# Altium integrated library Analog Devices Data Converters Analog-to-Digital Converters.IntLib: 2400 symbols (part 1 of 338)
Pins are listed as number, name and electrical type; pins without a type are passive.

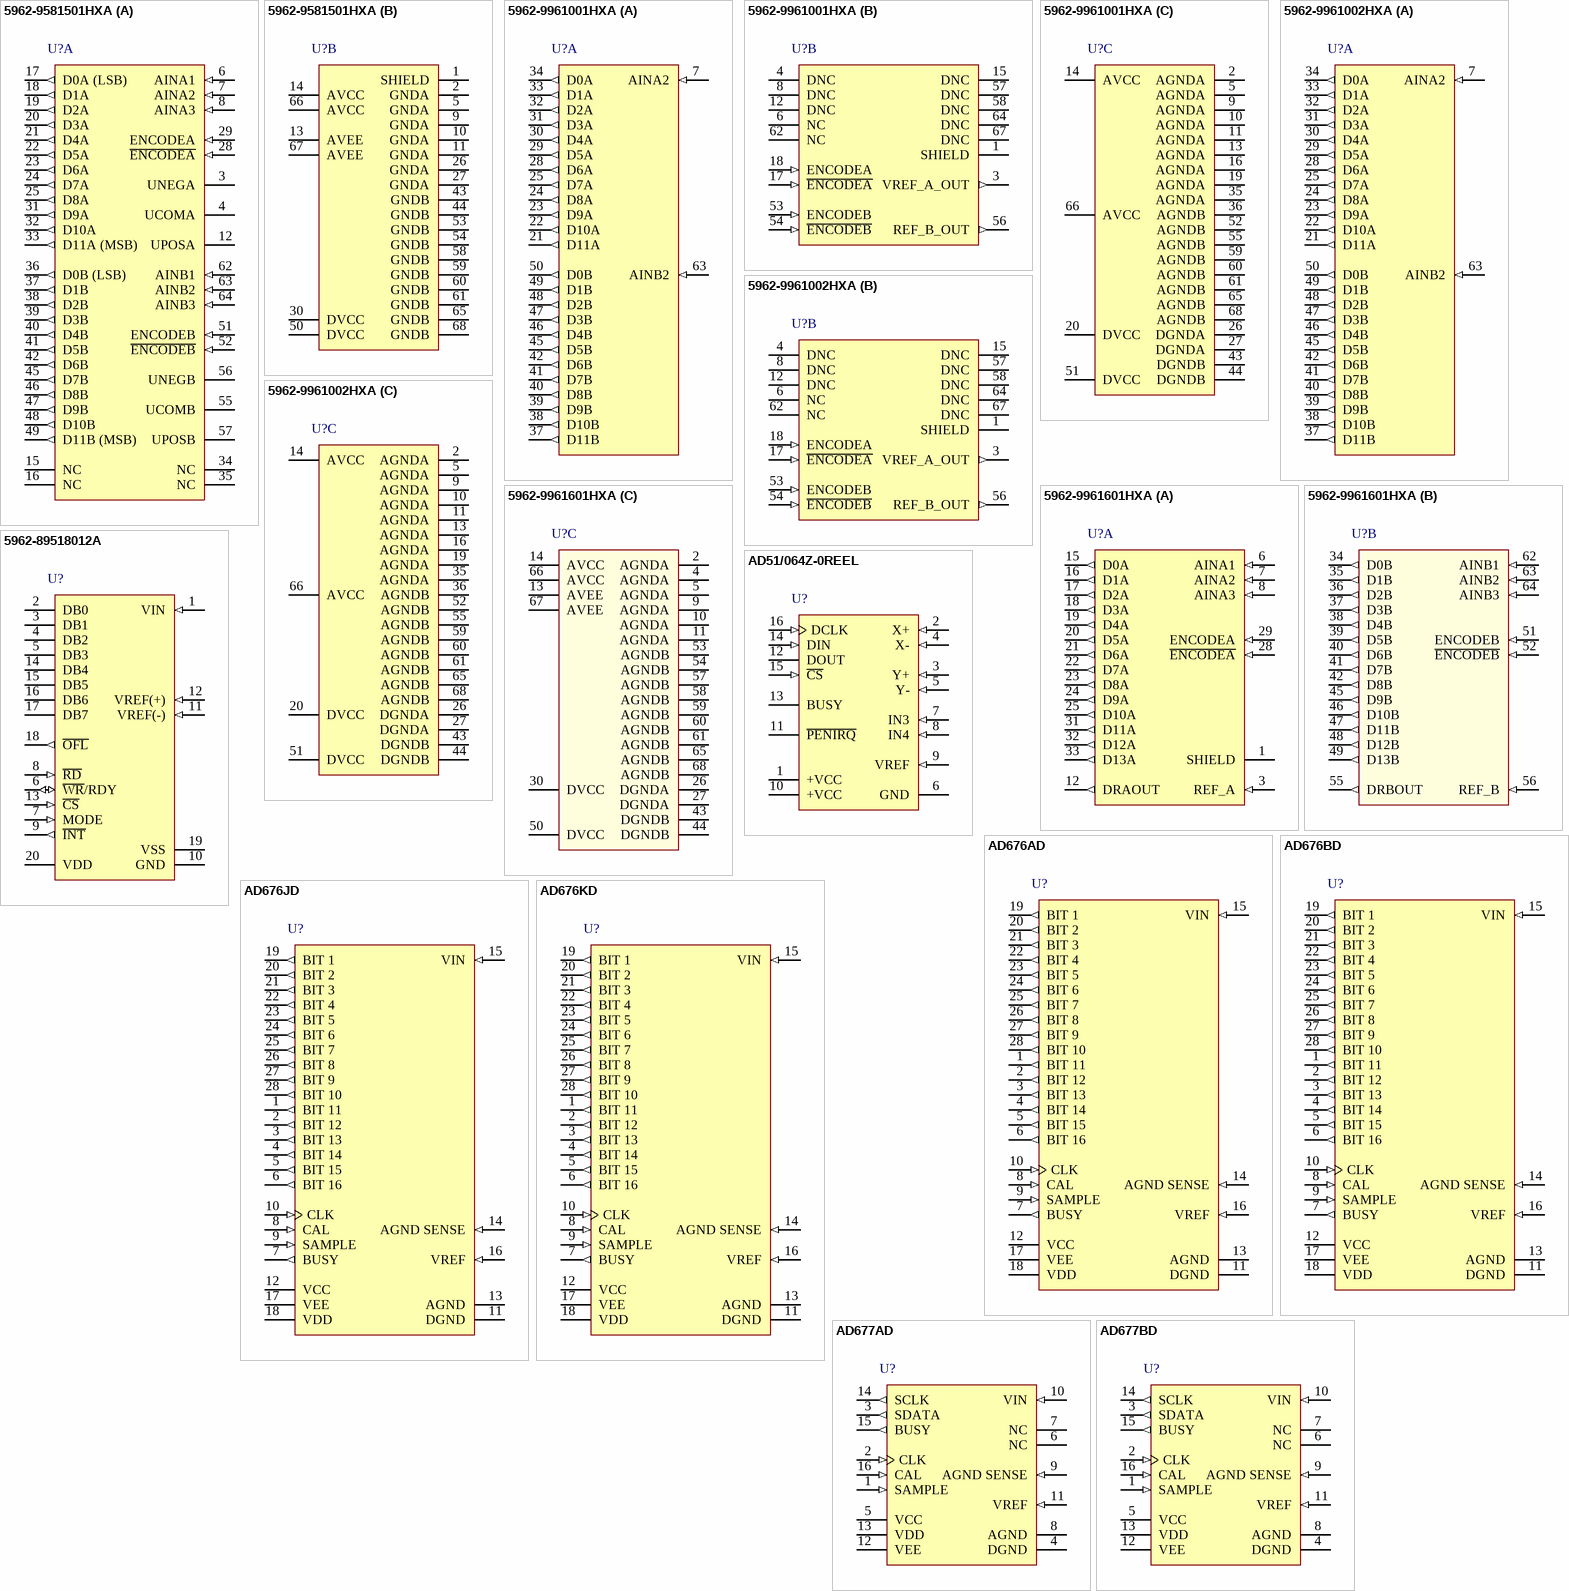
[diagram p0: symbols 5962-9581501HXA to AD677BD]

## 5962-9581501HXA
designator U?
Dual 12-Bit Microcircuit Hybrid Digital-Linear Analog-to-Digital Converter with Parallel Interface, 40MSPS, -55 to +125 degC, ES-68-1; Part Number: AD10242; Manufacturer: Analog Devices; Resolution (Bits): 12; Channels: 2; Throughput Rate (SPS): 40M; Interface: Par; Packing: 1; DatasheetVersion: Rev.B; PackageVersion: 2006; PackageReference: ES-68-1; PackageDescription: 68-Lead Ceramic Leaded Chip Carrier with Nonconductive Tie-Bar [CLCC]; RoHS: N; Mounting Technology: Surface Mount; ComponentLink1Description: Manufacturer URL; ComponentLink1URL: http://www.analog.com/en/index.html; ComponentLink2Description: Datasheet; ComponentLink2URL: http://www.dscc.dla.mil/downloads/milspec/smd/95815.pdf; ComponentLink3Description: Package Specification; ComponentLink3URL: http://www.analog.com/static/imported-files/packages/194770556ES_68_1.pdf; ComponentLink4Description: Product URL; ComponentLink4URL: http://www.analog.com/en/analog-to-digital-converters/ad-converters/ad10242/products/product.html
footprint ES-68-1_N (CQFP, 68-Leads, Body 24.1x24.1mm; Pitch 1.27mm, Gullwing Leadform, IPC Medium Density)
footprint ES-68-1_L (CQFP, 68-Leads, Body 24.1x24.1mm; Pitch 1.27mm, Gullwing Leadform, IPC High Density)
footprint ES-68-1_M (CQFP, 68-Leads, Body 24.1x24.1mm; Pitch 1.27mm, Gullwing Leadform, IPC Low Density)
part A pins: 3 UNEGA "Unipolar Negative.", 4 UCOMA "Unipolar Common.", 6 AINA1 (in) "Analog Input for A Side ADC (Nominally +/-0.5 V).", 7 AINA2 (in) "Analog Input for A Side ADC (Nominally +/-1.0 V).", 8 AINA3 (in) "Analog Input for A Side ADC (Nominally +/-2.0 V).", 12 UPOSA "Unipolar Positive.", 15 NC "No Connect.", 16 NC "No Connect.", 17 D0A (LSB) (out) "Digital Outputs for ADC A. (D0 LSB.)", 18 D1A (out) "Digital Outputs for ADC A. (D0 LSB.)", 19 D2A (out) "Digital Outputs for ADC A. (D0 LSB.)", 20 D3A (out) "Digital Outputs for ADC A. (D0 LSB.)", 21 D4A (out) "Digital Outputs for ADC A. (D0 LSB.)", 22 D5A (out) "Digital Outputs for ADC A. (D0 LSB.)", 23 D6A (out) "Digital Outputs for ADC A. (D0 LSB.)", 24 D7A (out) "Digital Outputs for ADC A. (D0 LSB.)", 25 D8A (out) "Digital Outputs for ADC A. (D0 LSB.)", 28 ~{ENCODEA} (in) "E\N\C\O\D\E\ is the complement of ENCODE.", 29 ENCODEA (in) "Data conversion is initiated on the rising edge of the ENCODE input.", 31 D9A (out) "Digital Outputs for ADC A. (D0 LSB.)", 32 D10A (out) "Digital Outputs for ADC A. (D0 LSB.)", 33 D11A (MSB) (out) "Digital Outputs for ADC A. (D0 LSB.)", 34 NC "No Connect.", 35 NC "No Connect.", 36 D0B (LSB) (out) "Digital Outputs for ADC B. (D0 LSB.)", 37 D1B (out) "Digital Outputs for ADC B. (D0 LSB.)", 38 D2B (out) "Digital Outputs for ADC B. (D0 LSB.)", 39 D3B (out) "Digital Outputs for ADC B. (D0 LSB.)", 40 D4B (out) "Digital Outputs for ADC B. (D0 LSB.)", 41 D5B (out) "Digital Outputs for ADC B. (D0 LSB.)", 42 D6B (out) "Digital Outputs for ADC B. (D0 LSB.)", 45 D7B (out) "Digital Outputs for ADC B. (D0 LSB.)", 46 D8B (out) "Digital Outputs for ADC B. (D0 LSB.)", 47 D9B (out) "Digital Outputs for ADC B. (D0 LSB.)", 48 D10B (out) "Digital Outputs for ADC B. (D0 LSB.)", 49 D11B (MSB) (out) "Digital Outputs for ADC B. (D0 LSB.)", 51 ENCODEB (in) "Data conversion is initiated on the rising edge of the ENCODE input.", 52 ~{ENCODEB} (in) "E\N\C\O\D\E\ is the complement of ENCODE.", 55 UCOMB "Unipolar Common.", 56 UNEGB "Unipolar Negative.", 57 UPOSB "Unipolar Positive.", 62 AINB1 (in) "Analog Input for B Side ADC (Nominally +/-0.5 V).", 63 AINB2 (in) "Analog Input for B Side ADC (Nominally +/-1.0 V).", 64 AINB3 (in) "Analog Input for B Side ADC (Nominally +/-2.0 V)."
part B pins: 1 SHIELD (power) "Internal Ground Shield between Channels.", 2 GNDA (power) "A Channel Ground. A and B grounds should be connected as close to the device as possible.", 5 GNDA (power) "A Channel Ground. A and B grounds should be connected as close to the device as possible.", 9 GNDA (power) "A Channel Ground. A and B grounds should be connected as close to the device as possible.", 10 GNDA (power) "A Channel Ground. A and B grounds should be connected as close to the device as possible.", 11 GNDA (power) "A Channel Ground. A and B grounds should be connected as close to the device as possible.", 13 AVEE (power) "Analog Negative Supply Voltage (Nominally -5.0 V or -5.2 V).", 14 AVCC (power) "Analog Positive Supply Voltage (Nominally 5.0 V).", 26 GNDA (power) "A Channel Ground. A and B grounds should be connected as close to the device as possible.", 27 GNDA (power) "A Channel Ground. A and B grounds should be connected as close to the device as possible.", 30 DVCC (power) "Digital Positive Supply Voltage (Nominally 5.0 V).", 43 GNDB (power) "B Channel Ground. A and B grounds should be connected as close to the device as possible.", 44 GNDB (power) "B Channel Ground. A and B grounds should be connected as close to the device as possible.", 50 DVCC (power) "Digital Positive Supply Voltage (Nominally 5.0 V).", 53 GNDB (power) "B Channel Ground. A and B grounds should be connected as close to the device as possible.", 54 GNDB (power) "B Channel Ground. A and B grounds should be connected as close to the device as possible.", 58 GNDB (power) "B Channel Ground. A and B grounds should be connected as close to the device as possible.", 59 GNDB (power) "B Channel Ground. A and B grounds should be connected as close to the device as possible.", 60 GNDB (power) "B Channel Ground. A and B grounds should be connected as close to the device as possible.", 61 GNDB (power) "B Channel Ground. A and B grounds should be connected as close to the device as possible.", 65 GNDB (power) "B Channel Ground. A and B grounds should be connected as close to the device as possible.", 66 AVCC (power) "Analog Positive Supply Voltage (Nominally 5.0 V).", 67 AVEE (power) "Analog Negative Supply Voltage (Nominally -5.0 V or -5.2 V).", 68 GNDB (power) "B Channel Ground. A and B grounds should be connected as close to the device as possible."

## 5962-9961001HXA
designator U?
Dual 12-Bit IF Sampling Analog-to-Digital Converter with Parallel Interface and Analog Input Signal Conditioning, 105MSPS, -55 to +125 degC, ES-68-3; Part Number: AD10200; Manufacturer: Analog Devices; Resolution (Bits): 12; Channels: 2; Throughput Rate (SPS): 105M; Interface: Par; Packing: 1; DatasheetVersion: Rev.A; PackageVersion: 072908-A; PackageReference: ES-68-3; PackageDescription: 68-Lead Ceramic Leaded Chip Carrier [CLCC]; RoHS: N; Mounting Technology: Surface Mount; ComponentLink1Description: Manufacturer URL; ComponentLink1URL: http://www.analog.com/en/index.html; ComponentLink2Description: Datasheet; ComponentLink2URL: http://www.analog.com/static/imported-files/data_sheets/AD10200.pdf; ComponentLink3Description: Package Specification; ComponentLink3URL: http://www.analog.com/static/imported-files/packages/PKG_PDF/CLCC(ES)/ES_68_3.pdf; ComponentLink4Description: Product URL; ComponentLink4URL: http://www.analog.com/en/analog-to-digital-converters/ad-converters/ad10200/products/product.html
footprint ES-68-3_N (CQFP, 68-Leads, Body 24.1x24.1mm; Pitch 1.27mm, Gullwing Leadform, IPC Medium Density)
footprint ES-68-3_L (CQFP, 68-Leads, Body 24.1x24.1mm; Pitch 1.27mm, Gullwing Leadform, IPC High Density)
footprint ES-68-3_M (CQFP, 68-Leads, Body 24.1x24.1mm; Pitch 1.27mm, Gullwing Leadform, IPC Low Density)
part A pins: 7 AINA2 (in) "Analog Input for A Side ADC", 21 D11A (out) "Digital Outputs for ADC A.", 22 D10A (out) "Digital Outputs for ADC A.", 23 D9A (out) "Digital Outputs for ADC A.", 24 D8A (out) "Digital Outputs for ADC A.", 25 D7A (out) "Digital Outputs for ADC A.", 28 D6A (out) "Digital Outputs for ADC A", 29 D5A (out) "Digital Outputs for ADC A.", 30 D4A (out) "Digital Outputs for ADC A.", 31 D3A (out) "Digital Outputs for ADC A.", 32 D2A (out) "Digital Outputs for ADC A.", 33 D1A (out) "Digital Outputs for ADC A.", 34 D0A (out) "Digital Outputs for ADC A.", 37 D11B (out) "Digital Outputs for ADC B.", 38 D10B (out) "Digital Outputs for ADC B.", 39 D9B (out) "Digital Outputs for ADC B.", 40 D8B (out) "Digital Outputs for ADC B.", 41 D7B (out) "Digital Outputs for ADC B", 42 D6B (out) "Digital Outputs for ADC B.", 45 D5B (out) "Digital Outputs for ADC B.", 46 D4B (out) "Digital Outputs for ADC B.", 47 D3B (out) "Digital Outputs for ADC B.", 48 D2B (out) "Digital Outputs for ADC B.", 49 D1B (out) "Digital Outputs for ADC B.", 50 D0B (out) "Digital Outputs for ADC B.", 63 AINB2 (in) "Analog Input for B Side ADC"
part B pins: 1 SHIELD "Internal Ground Shield between Channels", 3 VREF_A_OUT (out) "A Channel Internal Voltage Reference", 4 DNC "Do Not Connect", 6 NC "No Connection", 8 DNC "Do Not Connect", 12 DNC "Do Not Connect", 15 DNC "Do Not Connect", 17 ~{ENCODEA} (in) "Complement of Encode", 18 ENCODEA (in) "Data conversion initiated on the rising edge of ENCODE input.", 53 ENCODEB (in) "Data conversion initiated on rising edge of ENCODE input.", 54 ~{ENCODEB} (in) "Complement of Encode", 56 REF_B_OUT (out) "B Channel Internal Voltage Reference", 57 DNC "Do Not Connect", 58 DNC "Do Not Connect", 62 NC "No Connection", 64 DNC "Do Not Connect", 67 DNC "Do Not Connect"
part C pins: 2 AGNDA (power) "A Channel Analog Ground. A and B grounds should be connected as close to the device as possible.", 5 AGNDA (power) "A Channel Analog Ground. A and B grounds should be connected as close to the device as possible.", 9 AGNDA (power) "A Channel Analog Ground. A and B grounds should be connected as close to the device as possible.", 10 AGNDA (power) "A Channel Analog Ground. A and B grounds should be connected as close to the device as possible.", 11 AGNDA (power) "A Channel Analog Ground. A and B grounds should be connected as close to the device as possible.", 13 AGNDA (power) "A Channel Analog Ground. A and B grounds should be connected as close to the device as possible.", 14 AVCC (power) "Analog Positive Supply Voltage (Nominally 5.0 V)", 16 AGNDA (power) "A Channel Analog Ground. A and B grounds should be connected as close to the device as possible.", 19 AGNDA (power) "A Channel Analog Ground. A and B grounds should be connected as close to the device as possible.", 20 DVCC (power) "Digital Positive Supply Voltage (Nominally 3.3 V)", 26 DGNDA (power) "A Channel Digital Ground", 27 DGNDA (power) "A Channel Digital Ground", 35 AGNDA (power) "A Channel Analog Ground. A and B grounds should be connected as close to the device as possible.", 36 AGNDB (power) "B Channel Analog Ground. A and B grounds should be connected as close to the device as possible.", 43 DGNDB (power) "B Channel Digital Ground", 44 DGNDB (power) "B Channel Digital Ground", 51 DVCC (power) "Digital Positive Supply Voltage (Nominally 3.3 V)", 52 AGNDB (power) "B Channel Analog Ground. A and B grounds should be connected as close to the device as possible.", 55 AGNDB (power) "B Channel Analog Ground. A and B grounds should be connected as close to the device as possible.", 59 AGNDB (power) "B Channel Analog Ground. A and B grounds should be connected as close to the device as possible.", 60 AGNDB (power) "B Channel Analog Ground. A and B grounds should be connected as close to the device as possible.", 61 AGNDB (power) "B Channel Analog Ground. A and B grounds should be connected as close to the device as possible.", 65 AGNDB (power) "B Channel Analog Ground. A and B grounds should be connected as close to the device as possible.", 66 AVCC (power) "Analog Positive Supply Voltage (Nominally 5.0 V)", 68 AGNDB (power) "B Channel Analog Ground. A and B grounds should be connected as close to the device as possible."

## 5962-9961002HXA
designator U?
Dual 12-Bit IF Sampling Analog-to-Digital Converter with Parallel Interface and Analog Input Signal Conditioning, 105MSPS, -55 to +125 degC, ES-68-3; Part Number: AD10200; Manufacturer: Analog Devices; Resolution (Bits): 12; Channels: 2; Throughput Rate (SPS): 105M; Interface: Par; DatasheetVersion: Rev.A; PackageVersion: 072908-A; PackageReference: ES-68-3; PackageDescription: 68-Lead Ceramic Leaded Chip Carrier [CLCC]; RoHS: N; Mounting Technology: Surface Mount; ComponentLink1Description: Manufacturer URL; ComponentLink1URL: http://www.analog.com/en/index.html; ComponentLink2Description: Datasheet; ComponentLink2URL: http://www.analog.com/static/imported-files/data_sheets/AD10200.pdf; ComponentLink3Description: Package Specification; ComponentLink3URL: http://www.analog.com/static/imported-files/packages/PKG_PDF/CLCC(ES)/ES_68_3.pdf; ComponentLink4Description: Product URL; ComponentLink4URL: http://www.analog.com/en/analog-to-digital-converters/ad-converters/ad10200/products/product.html
footprint ES-68-3_N (CQFP, 68-Leads, Body 24.1x24.1mm; Pitch 1.27mm, Gullwing Leadform, IPC Medium Density)
footprint ES-68-3_L (CQFP, 68-Leads, Body 24.1x24.1mm; Pitch 1.27mm, Gullwing Leadform, IPC High Density)
footprint ES-68-3_M (CQFP, 68-Leads, Body 24.1x24.1mm; Pitch 1.27mm, Gullwing Leadform, IPC Low Density)
part A pins: 7 AINA2 (in) "Analog Input for A Side ADC", 21 D11A (out) "Digital Outputs for ADC A.", 22 D10A (out) "Digital Outputs for ADC A.", 23 D9A (out) "Digital Outputs for ADC A.", 24 D8A (out) "Digital Outputs for ADC A.", 25 D7A (out) "Digital Outputs for ADC A.", 28 D6A (out) "Digital Outputs for ADC A", 29 D5A (out) "Digital Outputs for ADC A.", 30 D4A (out) "Digital Outputs for ADC A.", 31 D3A (out) "Digital Outputs for ADC A.", 32 D2A (out) "Digital Outputs for ADC A.", 33 D1A (out) "Digital Outputs for ADC A.", 34 D0A (out) "Digital Outputs for ADC A.", 37 D11B (out) "Digital Outputs for ADC B.", 38 D10B (out) "Digital Outputs for ADC B.", 39 D9B (out) "Digital Outputs for ADC B.", 40 D8B (out) "Digital Outputs for ADC B.", 41 D7B (out) "Digital Outputs for ADC B", 42 D6B (out) "Digital Outputs for ADC B.", 45 D5B (out) "Digital Outputs for ADC B.", 46 D4B (out) "Digital Outputs for ADC B.", 47 D3B (out) "Digital Outputs for ADC B.", 48 D2B (out) "Digital Outputs for ADC B.", 49 D1B (out) "Digital Outputs for ADC B.", 50 D0B (out) "Digital Outputs for ADC B.", 63 AINB2 (in) "Analog Input for B Side ADC"
part B pins: 1 SHIELD "Internal Ground Shield between Channels", 3 VREF_A_OUT (out) "A Channel Internal Voltage Reference", 4 DNC "Do Not Connect", 6 NC "No Connection", 8 DNC "Do Not Connect", 12 DNC "Do Not Connect", 15 DNC "Do Not Connect", 17 ~{ENCODEA} (in) "Complement of Encode", 18 ENCODEA (in) "Data conversion initiated on the rising edge of ENCODE input.", 53 ENCODEB (in) "Data conversion initiated on rising edge of ENCODE input.", 54 ~{ENCODEB} (in) "Complement of Encode", 56 REF_B_OUT (out) "B Channel Internal Voltage Reference", 57 DNC "Do Not Connect", 58 DNC "Do Not Connect", 62 NC "No Connection", 64 DNC "Do Not Connect", 67 DNC "Do Not Connect"
part C pins: 2 AGNDA (power) "A Channel Analog Ground. A and B grounds should be connected as close to the device as possible.", 5 AGNDA (power) "A Channel Analog Ground. A and B grounds should be connected as close to the device as possible.", 9 AGNDA (power) "A Channel Analog Ground. A and B grounds should be connected as close to the device as possible.", 10 AGNDA (power) "A Channel Analog Ground. A and B grounds should be connected as close to the device as possible.", 11 AGNDA (power) "A Channel Analog Ground. A and B grounds should be connected as close to the device as possible.", 13 AGNDA (power) "A Channel Analog Ground. A and B grounds should be connected as close to the device as possible.", 14 AVCC (power) "Analog Positive Supply Voltage (Nominally 5.0 V)", 16 AGNDA (power) "A Channel Analog Ground. A and B grounds should be connected as close to the device as possible.", 19 AGNDA (power) "A Channel Analog Ground. A and B grounds should be connected as close to the device as possible.", 20 DVCC (power) "Digital Positive Supply Voltage (Nominally 3.3 V)", 26 DGNDA (power) "A Channel Digital Ground", 27 DGNDA (power) "A Channel Digital Ground", 35 AGNDA (power) "A Channel Analog Ground. A and B grounds should be connected as close to the device as possible.", 36 AGNDB (power) "B Channel Analog Ground. A and B grounds should be connected as close to the device as possible.", 43 DGNDB (power) "B Channel Digital Ground", 44 DGNDB (power) "B Channel Digital Ground", 51 DVCC (power) "Digital Positive Supply Voltage (Nominally 3.3 V)", 52 AGNDB (power) "B Channel Analog Ground. A and B grounds should be connected as close to the device as possible.", 55 AGNDB (power) "B Channel Analog Ground. A and B grounds should be connected as close to the device as possible.", 59 AGNDB (power) "B Channel Analog Ground. A and B grounds should be connected as close to the device as possible.", 60 AGNDB (power) "B Channel Analog Ground. A and B grounds should be connected as close to the device as possible.", 61 AGNDB (power) "B Channel Analog Ground. A and B grounds should be connected as close to the device as possible.", 65 AGNDB (power) "B Channel Analog Ground. A and B grounds should be connected as close to the device as possible.", 66 AVCC (power) "Analog Positive Supply Voltage (Nominally 5.0 V)", 68 AGNDB (power) "B Channel Analog Ground. A and B grounds should be connected as close to the device as possible."

## 5962-9961601HXA
designator U?
Dual 14-Bit Analog-to-Digital Converter with Parallel Interface and Analog Input Signal Conditioning, 65MSPS, -40 to +85 degC, Z-68A; Part Number: AD10465; Manufacturer: Analog Devices; Resolution (Bits): 14; Channels: 2; Throughput Rate (SPS): 65M; Interface: Par; DatasheetVersion: Rev.A; PackageVersion: 2003; PackageReference: Z-68A; PackageDescription: 68-Lead Ceramic Leaded Chip Carrier [CLCC]; RoHS: N; Mounting Technology: Surface Mount; ComponentLink1Description: Manufacturer URL; ComponentLink1URL: http://www.analog.com/en/index.html; ComponentLink2Description: Datasheet; ComponentLink2URL: http://www.analog.com/static/imported-files/data_sheets/AD10465.pdf; ComponentLink3Description: Package Specification; ComponentLink3URL: Z-68A; ComponentLink4Description: Product URL; ComponentLink4URL: http://www.analog.com/en/analog-to-digital-converters/ad-converters/ad10465/products/product.html
footprint Z-68A_N (QFP, 68-Leads, Body 24.1x24.1mm, Pitch 1.27mm, IPC Medium Density)
footprint Z-68A_L (QFP, 68-Leads, Body 24.1x24.1mm, Pitch 1.27mm, IPC High Density)
footprint Z-68A_M (QFP, 68-Leads, Body 24.1x24.1mm, Pitch 1.27mm, IPC Low Density)
part A pins: 1 SHIELD "Internal Ground Shield between Channels", 3 REF_A (in) "A Channel Internal Voltage Reference", 6 AINA1 (in) "Analog Input for A Side ADC (Nominally +/-0.5 V).", 7 AINA2 (in) "Analog Input for A Side ADC (Nominally +/-1.0 V).", 8 AINA3 (in) "Analog Input for A Side ADC (Nominally +/-2.0 V).", 12 DRAOUT (out) "Data Ready A Output.", 15 D0A (out) "Digital Outputs for ADC A. D0A (LSBA).", 16 D1A (out) "Digital Outputs for ADC A.", 17 D2A (out) "Digital Outputs for ADC A.", 18 D3A (out) "Digital Outputs for ADC A.", 19 D4A (out) "Digital Outputs for ADC A.", 20 D5A (out) "Digital Outputs for ADC A.", 21 D6A (out) "Digital Outputs for ADC A.", 22 D7A (out) "Digital Outputs for ADC A.", 23 D8A (out) "Digital Outputs for ADC A.", 24 D9A (out) "Digital Outputs for ADC A.", 25 D10A (out) "Digital Outputs for ADC A.", 28 ~{ENCODEA} (in) "Complement of ENCODE.", 29 ENCODEA (in) "Data Conversion Initiated on Rising Edge of ENCODE Input.", 31 D11A (out) "Digital Outputs for ADC A.", 32 D12A (out) "Digital Outputs for ADC A.", 33 D13A (out) "Digital Outputs for ADC A."
part B pins: 34 D0B (out) "Digital Outputs for ADC B. D0B (LSBB).", 35 D1B (out) "Digital Outputs for ADC B.", 36 D2B (out) "Digital Outputs for ADC B.", 37 D3B (out) "Digital Outputs for ADC B.", 38 D4B (out) "Digital Outputs for ADC B.", 39 D5B (out) "Digital Outputs for ADC B.", 40 D6B (out) "Digital Outputs for ADC B.", 41 D7B (out) "Digital Outputs for ADC B.", 42 D8B (out) "Digital Outputs for ADC B.", 45 D9B (out) "Digital Outputs for ADC B.", 46 D10B (out) "Digital Outputs for ADC B.", 47 D11B (out) "Digital Outputs for ADC B.", 48 D12B (out) "Digital Outputs for ADC B.", 49 D13B (out) "Digital Outputs for ADC B.", 51 ENCODEB (in) "Data conversion initiated on rising edge of ENCODE input.", 52 ~{ENCODEB} (in) "Complement of ENCODEB.", 55 DRBOUT (out) "Data Ready B Output.", 56 REF_B (in) "B Channel Internal Voltage Reference", 62 AINB1 (in) "Analog Input for B Side ADC (Nominally +/-0.5 V).", 63 AINB2 (in) "Analog Input for B Side ADC (Nominally +/-1.0 V).", 64 AINB3 (in) "Analog Input for B Side ADC (Nominally +/-2.0 V)."
part C pins: 2 AGNDA (power) "A Channel Analog Ground. A and B grounds should be connected as close to the device as possible.", 4 AGNDA (power) "A Channel Analog Ground. A and B grounds should be connected as close to the device as possible.", 5 AGNDA (power) "A Channel Analog Ground. A and B grounds should be connected as close to the device as possible.", 9 AGNDA (power) "A Channel Analog Ground. A and B grounds should be connected as close to the device as possible.", 10 AGNDA (power) "A Channel Analog Ground. A and B grounds should be connected as close to the device as possible.", 11 AGNDA (power) "A Channel Analog Ground. A and B grounds should be connected as close to the device as possible.", 13 AVEE (power) "Analog Negative Supply Voltage (Nominally -5.0 V or -5.2 V).", 14 AVCC (power) "Analog Positive Supply Voltage (Nominally 5.0 V)", 26 DGNDA (power) "A Channel Digital Ground", 27 DGNDA (power) "A Channel Digital Ground", 30 DVCC (power) "Digital Positive Supply Voltage (Nominally 5.0 V or 3.3 V).", 43 DGNDB (power) "B Channel Digital Ground", 44 DGNDB (power) "B Channel Digital Ground", 50 DVCC (power) "Digital Positive Supply Voltage (Nominally 5.0 V or 3.3 V).", 53 AGNDB (power) "B Channel Analog Ground. A and B grounds should be connected as close to the device as possible.", 54 AGNDB (power) "B Channel Analog Ground. A and B grounds should be connected as close to the device as possible.", 57 AGNDB (power) "B Channel Analog Ground. A and B grounds should be connected as close to the device as possible.", 58 AGNDB (power) "B Channel Analog Ground. A and B grounds should be connected as close to the device as possible.", 59 AGNDB (power) "B Channel Analog Ground. A and B grounds should be connected as close to the device as possible.", 60 AGNDB (power) "B Channel Analog Ground. A and B grounds should be connected as close to the device as possible.", 61 AGNDB (power) "B Channel Analog Ground. A and B grounds should be connected as close to the device as possible.", 65 AGNDB (power) "B Channel Analog Ground. A and B grounds should be connected as close to the device as possible.", 66 AVCC (power) "Analog Positive Supply Voltage (Nominally 5.0 V).", 67 AVEE (power) "Analog Negative Supply Voltage (Nominally -5.0 V or -5.2 V).", 68 AGNDB (power) "B Channel Analog Ground. A and B grounds should be connected as close to the device as possible."

## 5962-89518012A
designator U?
Single 8-Bit Microcircuit Analog-to-Digital Converter with Parallel Interface and Track / Hold, CMOS, Monolithic Silicon, 1MSPS, -55 to +125 degC, E-20-1, Tube; Part Number: AD7821; Manufacturer: Analog Devices; Resolution (Bits): 8; Channels: 1; Throughput Rate (SPS): 1M; Interface: Par; DatasheetVersion: Rev.B; PackageVersion: 022106-A; PackageReference: E-20-1; PackageDescription: 20-Terminal Ceramic Leadless Chip Carrier [LCC]; RoHS: N; Packing: Tube; Mounting Technology: Surface Mount; ComponentLink1Description: Manufacturer URL; ComponentLink1URL: http://www.analog.com/en/index.html; ComponentLink2Description: Datasheet; ComponentLink2URL: http://www.analog.com/static/imported-files/data_sheets/AD7821.pdf; ComponentLink3Description: Package Specification; ComponentLink3URL: http://www.analog.com/static/imported-files/packages/PKG_PDF/LCC(E)/E_20_1.pdf; ComponentLink4Description: Product URL; ComponentLink4URL: http://www.analog.com/en/analog-to-digital-converters/ad-converters/ad7821/products/product.html
footprint E-20-1_N (Leadless Chip Carrier, 20-Leads, Body 8.9x8.9mm, Pitch 1.27mm, IPC Medium Density)
footprint E-20-1_L (Leadless Chip Carrier, 20-Leads, Body 8.9x8.9mm, Pitch 1.27mm, IPC High Density)
footprint E-20-1_M (Leadless Chip Carrier, 20-Leads, Body 8.9x8.9mm, Pitch 1.27mm, IPC Low Density)
pins: 1 VIN (in) "Analog Input: Range VREF(-) =< VIN =< VREF(+)", 2 DB0 (hiz) "Three-State Data Output  (LSB)", 3 DB1 (hiz) "Three-State Data Outputs.", 4 DB2 (hiz) "Three-State Data Outputs.", 5 DB3 (hiz) "Three-State Data Outputs.", 6 ~{WR}/RDY (io) "WRITE control input/READY status output. See Digital Interface section", 7 MODE (in) "Mode Selection Input.  It determines whether the device operates in the WR-RD or RD  mode.  This input is internally pulled low through a 50 uA current source. See Digital Interface section.", 8 ~{RD} (in) "READ input.R\D\  must be low to access data from the part.See Digital Interface section.", 9 ~{INT} (out) "INTERRUPT Output.  I\N\T\  going low indicates that the conversion is complete.I\N\T\  returns high on the rising edge of  C\S\ or R\D\.See Digital Interface section.", 10 GND (power) "Ground", 11 VREF(-) (in) "Lower limit of reference span.Range: VSS =< VREF(-) =< VREF(+).", 12 VREF(+) (in) "Upper limit of reference span.Range: VREF(-) < VREF(+) =< VDD.", 13 ~{CS} (in) "Chip Select Input.The device is selected when this input is low.", 14 DB4 (hiz) "Three-State Data Outputs.", 15 DB5 (hiz) "Three-State Data Outputs.", 16 DB6 (hiz) "Three-State Data Outputs.", 17 DB7 (hiz) "Three-State Data Output (MSB)", 18 ~{OFL} (out) "Overflow Output. If the analog input is higher than (VREF(+) - 1/2 LSB), O\F\L\ will be low at the end of conversion. It is a non-three-state output which can be used to cascade two or more devices to increase resolution.", 19 VSS (power) "Negative supply voltage.VSS = 0 V; Unipolar Operation VSS = -5 V; Bipolar Operation.", 20 VDD (power) "Positive supply voltage, +5 V."

## AD51/064Z-0REEL
designator U?
4 Channel Touch Screen Digitizer, 125KSPS, 0 to +70 degC, RU-16, Pb-Free, Reel; Part Number: AD7843; Manufacturer: Analog Devices; Resolution (Bits): 12; Channels: 4; Throughput Rate (SPS): 125K; Interface: Ser; DatasheetVersion: Rev.B; PackageVersion: Nov-2002; PackageReference: RU-16; PackageDescription: 16-Lead Thin Shrink Small Outline Package [TSSOP]; RoHS: Y; Packing: Reel; Mounting Technology: Surface Mount; Code_JEDEC: MO-153-AB; ComponentLink1Description: Manufacturer URL; ComponentLink1URL: http://www.analog.com/en/index.html; ComponentLink2Description: Datasheet; ComponentLink2URL: http://www.analog.com/static/imported-files/data_sheets/AD7843.pdf; ComponentLink3Description: Package Specification; ComponentLink3URL: http://www.analog.com/static/imported-files/packages/36244347913743854010197452789RU16.pdf; ComponentLink4Description: Product URL; ComponentLink4URL: http://www.analog.com/en/analog-to-digital-converters/ad-converters/ad7843/products/product.html
footprint RU-16_N (TSOP, 16-Leads, Body 5x4.4mm, Pitch 0.65mm, IPC Medium Density)
footprint RU-16_L (TSOP, 16-Leads, Body 5x4.4mm, Pitch 0.65mm, IPC High Density)
footprint RU-16_M (TSOP, 16-Leads, Body 5x4.4mm, Pitch 0.65mm, IPC Low Density)
pins: 1 +VCC (power) "Power Supply Input. The +VCC range for the AD7843 is from 2.2 V to 5.25 V. Both +VCC pins should be connected directly together.", 2 X+ (in) "X+ Position Input. ADC Input Channel 1.", 3 Y+ (in) "Y+ Position Input. ADC Input Channel 2.", 4 X- (in) "X- Position Input.", 5 Y- (in) "Y- Position Input.", 6 GND (power) "Analog Ground. Ground reference point for all circuitry on the AD7843. All analog input signals and any external reference signal should be referred to this GND voltage.", 7 IN3 (in) "Auxiliary Input 1. ADC Input Channel 3.", 8 IN4 (in) "Auxiliary Input 2. ADC Input Channel 4.", 9 VREF (in) "Reference Input for the AD7843. An external reference must be applied to this input. The voltage range for the external reference is 1.0 V to +VCC. For specified performance, it is 2.5 V.", 10 +VCC (power) "Power Supply Input. The +VCC range for the AD7843 is from 2.2 V to 5.25 V. Both +VCC pins should be connected directly together.", 11 ~{PENIRQ} (oc) "Pen Interrupt. CMOS logic open-drain output (requires 10 k ohm to 100 k ohm pull-up register externally).", 12 DOUT (hiz) "Data Out. Logic Output. The conversion result from the AD7843 is provided on this output as a serial data stream.The bits are clocked out on the falling edge of the DCLK input. This output is high impedance when C\S\ is high.", 13 BUSY (hiz) "BUSY Output. Logic Output. This output is high impedance when C\S\ is high.", 14 DIN (in) "Data In. Logic input. Data to be written to the AD7843 control register is provided on this input and is clocked into the register on the rising edge of DCLK (see the Control Register section).", 15 ~{CS} (in) "Chip Select Input. Active Low Logic Input. This input provides the dual function of initiating conversions on the AD7843 and also enables the serial input/output register.", 16 DCLK (in) "External Clock Input. Logic Input. DCLK provides the serial clock for accessing data from the part. This clock input is also used as the clock source for the AD7843 conversion process."

## AD676AD
designator U?
Single 16-Bit Sampling Analog-to-Digital Converter with Parallel Interface, 100KSPS, -40 to +85 degC, D-28, Tube; Part Number: AD676; Manufacturer: Analog Devices; Resolution (Bits): 16; Channels: 1; Throughput Rate (SPS): 100K; Interface: Par; DatasheetVersion: Rev.A; PackageVersion: 2003; PackageReference: D-28; PackageDescription: 28-Lead Side-Brazed Ceramic Dual In-Line Package [SBDIP]; RoHS: N; Packing: Tube; Mounting Technology: Through-hole; ComponentLink1Description: Manufacturer URL; ComponentLink1URL: http://www.analog.com/en/index.html; ComponentLink2Description: Datasheet; ComponentLink2URL: http://www.analog.com/static/imported-files/data_sheets/AD676.pdf; ComponentLink3Description: Package Specification; ComponentLink3URL: http://www.analog.com/static/imported-files/data_sheets/AD7893.pdf; ComponentLink4Description: Product URL; ComponentLink4URL: http://www.analog.com/en/analog-to-digital-converters/ad-converters/ad676/products/product.html
footprint D-28 (DIP, 28-Leads, Row Spacing 15.24mm, Pitch 2.54mm, Body 37.1x15.1mm)
pins: 1 BIT 11 (out) "BIT 11 represent the six LSBs of data.", 2 BIT 12 (out) "BIT 12 represent the six LSBs of data.", 3 BIT 13 (out) "BIT 13 represent the six LSBs of data.", 4 BIT 14 (out) "BIT 14 represent the six LSBs of data.", 5 BIT 15 (out) "BIT 15 represent the six LSBs of data.", 6 BIT 16 (out) "BIT 16 represent the six LSBs of data.", 7 BUSY (out) "Status Line for Converter. Active HIGH, indicating a conversion or calibration in progress. BUSY should be buffered when capacitively loaded.", 8 CAL (in) "Calibration Control Pin (Asynchronous).", 9 SAMPLE (in) "VIN Acquisition Control Pin. Active HIGH. During conversion, SAMPLE controls the state of the internal sample-hold amplifier and the falling edge initiates conversion (see "Conversion Control" paragraph). During calibration, (See Datasheet)", 10 CLK (in) "Master Clock Input. The AD676 requires 17 clock cycles to execute a conversion.", 11 DGND (power) "Digital Ground.", 12 VCC (power) "+12 V Analog Supply Voltage", 13 AGND (power) "Analog Ground.", 14 AGND SENSE (in) "Analog Ground Sense.", 15 VIN (in) "Analog Input Voltage.", 16 VREF (in) "External Voltage Reference Input.", 17 VEE (power) "-12 V Analog Supply Voltage. Note: the lid of the ceramic package is internally connected to VEE.", 18 VDD (power) "+5 V Logic Supply Voltage.", 19 BIT 1 (out) "BIT 1 represent the ten MSB of data.", 20 BIT 2 (out) "BIT 2 represent the ten MSB of data.", 21 BIT 3 (out) "BIT 3  represent the ten MSB of data.", 22 BIT 4 (out) "BIT 4 represent the ten MSB of data.", 23 BIT 5 (out) "BIT 5 represent the ten MSB of data.", 24 BIT 6 (out) "BIT 6 represent the ten MSB of data.", 25 BIT 7 (out) "BIT 7 represent the ten MSB of data.", 26 BIT 8 (out) "BIT 8 represent the ten MSB of data.", 27 BIT 9 (out) "BIT 9 represent the ten MSB of data.", 28 BIT 10 (out) "BIT 10 represent the ten MSB of data."

## AD676BD
designator U?
Single 16-Bit Sampling Analog-to-Digital Converter with Parallel Interface, 100KSPS, -40 to +85 degC, D-28, Tube; Part Number: AD676; Manufacturer: Analog Devices; Resolution (Bits): 16; Channels: 1; Throughput Rate (SPS): 100K; Interface: Par; DatasheetVersion: Rev.A; PackageVersion: 2003; PackageReference: D-28; PackageDescription: 28-Lead Side-Brazed Ceramic Dual In-Line Package [SBDIP]; RoHS: N; Packing: Tube; Mounting Technology: Through-hole; ComponentLink1Description: Manufacturer URL; ComponentLink1URL: http://www.analog.com/en/index.html; ComponentLink2Description: Datasheet; ComponentLink2URL: http://www.analog.com/static/imported-files/data_sheets/AD676.pdf; ComponentLink3Description: Package Specification; ComponentLink3URL: http://www.analog.com/static/imported-files/data_sheets/AD7893.pdf; ComponentLink4Description: Product URL; ComponentLink4URL: http://www.analog.com/en/analog-to-digital-converters/ad-converters/ad676/products/product.html
footprint D-28 (DIP, 28-Leads, Row Spacing 15.24mm, Pitch 2.54mm, Body 37.1x15.1mm)
pins: 1 BIT 11 (out) "BIT 11 represent the six LSBs of data.", 2 BIT 12 (out) "BIT 12 represent the six LSBs of data.", 3 BIT 13 (out) "BIT 13 represent the six LSBs of data.", 4 BIT 14 (out) "BIT 14 represent the six LSBs of data.", 5 BIT 15 (out) "BIT 15 represent the six LSBs of data.", 6 BIT 16 (out) "BIT 16 represent the six LSBs of data.", 7 BUSY (out) "Status Line for Converter. Active HIGH, indicating a conversion or calibration in progress. BUSY should be buffered when capacitively loaded.", 8 CAL (in) "Calibration Control Pin (Asynchronous).", 9 SAMPLE (in) "VIN Acquisition Control Pin. Active HIGH. During conversion, SAMPLE controls the state of the internal sample-hold amplifier and the falling edge initiates conversion (see "Conversion Control" paragraph). During calibration, (See Datasheet)", 10 CLK (in) "Master Clock Input. The AD676 requires 17 clock cycles to execute a conversion.", 11 DGND (power) "Digital Ground.", 12 VCC (power) "+12 V Analog Supply Voltage", 13 AGND (power) "Analog Ground.", 14 AGND SENSE (in) "Analog Ground Sense.", 15 VIN (in) "Analog Input Voltage.", 16 VREF (in) "External Voltage Reference Input.", 17 VEE (power) "-12 V Analog Supply Voltage. Note: the lid of the ceramic package is internally connected to VEE.", 18 VDD (power) "+5 V Logic Supply Voltage.", 19 BIT 1 (out) "BIT 1 represent the ten MSB of data.", 20 BIT 2 (out) "BIT 2 represent the ten MSB of data.", 21 BIT 3 (out) "BIT 3  represent the ten MSB of data.", 22 BIT 4 (out) "BIT 4 represent the ten MSB of data.", 23 BIT 5 (out) "BIT 5 represent the ten MSB of data.", 24 BIT 6 (out) "BIT 6 represent the ten MSB of data.", 25 BIT 7 (out) "BIT 7 represent the ten MSB of data.", 26 BIT 8 (out) "BIT 8 represent the ten MSB of data.", 27 BIT 9 (out) "BIT 9 represent the ten MSB of data.", 28 BIT 10 (out) "BIT 10 represent the ten MSB of data."

## AD676JD
designator U?
Single 16-Bit Sampling Analog-to-Digital Converter with Parallel Interface, 100KSPS, 0 to +70 degC, D-28, Tube; Part Number: AD676; Manufacturer: Analog Devices; Resolution (Bits): 16; Channels: 1; Throughput Rate (SPS): 100K; Interface: Par; DatasheetVersion: Rev.A; PackageVersion: 2003; PackageReference: D-28; PackageDescription: 28-Lead Side-Brazed Ceramic Dual In-Line Package [SBDIP]; RoHS: N; Packing: Tube; Mounting Technology: Through-hole; ComponentLink1Description: Manufacturer URL; ComponentLink1URL: http://www.analog.com/en/index.html; ComponentLink2Description: Datasheet; ComponentLink2URL: http://www.analog.com/static/imported-files/data_sheets/AD676.pdf; ComponentLink3Description: Package Specification; ComponentLink3URL: http://www.analog.com/static/imported-files/data_sheets/AD7893.pdf; ComponentLink4Description: Product URL; ComponentLink4URL: http://www.analog.com/en/analog-to-digital-converters/ad-converters/ad676/products/product.html
footprint D-28 (DIP, 28-Leads, Row Spacing 15.24mm, Pitch 2.54mm, Body 37.1x15.1mm)
pins: 1 BIT 11 (out) "BIT 11 represent the six LSBs of data.", 2 BIT 12 (out) "BIT 12 represent the six LSBs of data.", 3 BIT 13 (out) "BIT 13 represent the six LSBs of data.", 4 BIT 14 (out) "BIT 14 represent the six LSBs of data.", 5 BIT 15 (out) "BIT 15 represent the six LSBs of data.", 6 BIT 16 (out) "BIT 16 represent the six LSBs of data.", 7 BUSY (out) "Status Line for Converter. Active HIGH, indicating a conversion or calibration in progress. BUSY should be buffered when capacitively loaded.", 8 CAL (in) "Calibration Control Pin (Asynchronous).", 9 SAMPLE (in) "VIN Acquisition Control Pin. Active HIGH. During conversion, SAMPLE controls the state of the internal sample-hold amplifier and the falling edge initiates conversion (see "Conversion Control" paragraph). During calibration, (See Datasheet)", 10 CLK (in) "Master Clock Input. The AD676 requires 17 clock cycles to execute a conversion.", 11 DGND (power) "Digital Ground.", 12 VCC (power) "+12 V Analog Supply Voltage", 13 AGND (power) "Analog Ground.", 14 AGND SENSE (in) "Analog Ground Sense.", 15 VIN (in) "Analog Input Voltage.", 16 VREF (in) "External Voltage Reference Input.", 17 VEE (power) "-12 V Analog Supply Voltage. Note: the lid of the ceramic package is internally connected to VEE.", 18 VDD (power) "+5 V Logic Supply Voltage.", 19 BIT 1 (out) "BIT 1 represent the ten MSB of data.", 20 BIT 2 (out) "BIT 2 represent the ten MSB of data.", 21 BIT 3 (out) "BIT 3  represent the ten MSB of data.", 22 BIT 4 (out) "BIT 4 represent the ten MSB of data.", 23 BIT 5 (out) "BIT 5 represent the ten MSB of data.", 24 BIT 6 (out) "BIT 6 represent the ten MSB of data.", 25 BIT 7 (out) "BIT 7 represent the ten MSB of data.", 26 BIT 8 (out) "BIT 8 represent the ten MSB of data.", 27 BIT 9 (out) "BIT 9 represent the ten MSB of data.", 28 BIT 10 (out) "BIT 10 represent the ten MSB of data."

## AD676KD
designator U?
Single 16-Bit Sampling Analog-to-Digital Converter with Parallel Interface, 100KSPS, 0 to +70 degC, D-28, Tube; Part Number: AD676; Manufacturer: Analog Devices; Resolution (Bits): 16; Channels: 1; Throughput Rate (SPS): 100K; Interface: Par; DatasheetVersion: Rev.A; PackageVersion: 2003; PackageReference: D-28; PackageDescription: 28-Lead Side-Brazed Ceramic Dual In-Line Package [SBDIP]; RoHS: N; Packing: Tube; Mounting Technology: Through-hole; ComponentLink1Description: Manufacturer URL; ComponentLink1URL: http://www.analog.com/en/index.html; ComponentLink2Description: Datasheet; ComponentLink2URL: http://www.analog.com/static/imported-files/data_sheets/AD676.pdf; ComponentLink3Description: Package Specification; ComponentLink3URL: http://www.analog.com/static/imported-files/data_sheets/AD7893.pdf; ComponentLink4Description: Product URL; ComponentLink4URL: http://www.analog.com/en/analog-to-digital-converters/ad-converters/ad676/products/product.html
footprint D-28 (DIP, 28-Leads, Row Spacing 15.24mm, Pitch 2.54mm, Body 37.1x15.1mm)
pins: 1 BIT 11 (out) "BIT 11 represent the six LSBs of data.", 2 BIT 12 (out) "BIT 12 represent the six LSBs of data.", 3 BIT 13 (out) "BIT 13 represent the six LSBs of data.", 4 BIT 14 (out) "BIT 14 represent the six LSBs of data.", 5 BIT 15 (out) "BIT 15 represent the six LSBs of data.", 6 BIT 16 (out) "BIT 16 represent the six LSBs of data.", 7 BUSY (out) "Status Line for Converter. Active HIGH, indicating a conversion or calibration in progress. BUSY should be buffered when capacitively loaded.", 8 CAL (in) "Calibration Control Pin (Asynchronous).", 9 SAMPLE (in) "VIN Acquisition Control Pin. Active HIGH. During conversion, SAMPLE controls the state of the internal sample-hold amplifier and the falling edge initiates conversion (see "Conversion Control" paragraph). During calibration, (See Datasheet)", 10 CLK (in) "Master Clock Input. The AD676 requires 17 clock cycles to execute a conversion.", 11 DGND (power) "Digital Ground.", 12 VCC (power) "+12 V Analog Supply Voltage", 13 AGND (power) "Analog Ground.", 14 AGND SENSE (in) "Analog Ground Sense.", 15 VIN (in) "Analog Input Voltage.", 16 VREF (in) "External Voltage Reference Input.", 17 VEE (power) "-12 V Analog Supply Voltage. Note: the lid of the ceramic package is internally connected to VEE.", 18 VDD (power) "+5 V Logic Supply Voltage.", 19 BIT 1 (out) "BIT 1 represent the ten MSB of data.", 20 BIT 2 (out) "BIT 2 represent the ten MSB of data.", 21 BIT 3 (out) "BIT 3  represent the ten MSB of data.", 22 BIT 4 (out) "BIT 4 represent the ten MSB of data.", 23 BIT 5 (out) "BIT 5 represent the ten MSB of data.", 24 BIT 6 (out) "BIT 6 represent the ten MSB of data.", 25 BIT 7 (out) "BIT 7 represent the ten MSB of data.", 26 BIT 8 (out) "BIT 8 represent the ten MSB of data.", 27 BIT 9 (out) "BIT 9 represent the ten MSB of data.", 28 BIT 10 (out) "BIT 10 represent the ten MSB of data."

## AD677AD
designator U?
Single 16-Bit Sampling Analog-to-Digital Converter with Serial Interface, 100KSPS, -40 to +85 degC, D-16, Tube; Part Number: AD677; Manufacturer: Analog Devices; Resolution (Bits): 16; Channels: 1; Throughput Rate (SPS): 100K; Interface: Ser; DatasheetVersion: Rev.A; PackageVersion: Oct-2004; PackageReference: D-16; PackageDescription: 16-Lead Side-Brazed Ceramic Dual In-Line Package [SBDIP]; RoHS: N; Packing: Tube; Mounting Technology: Through-hole; ComponentLink1Description: Manufacturer URL; ComponentLink1URL: http://www.analog.com/en/index.html; ComponentLink2Description: Datasheet; ComponentLink2URL: http://www.analog.com/static/imported-files/data_sheets/AD677.pdf; ComponentLink3Description: Package Specification; ComponentLink3URL: http://www.analog.com/static/imported-files/packages/411773807540737148809448D_16.pdf; ComponentLink4Description: Product URL; ComponentLink4URL: http://www.analog.com/en/analog-to-digital-converters/ad-converters/ad677/products/product.html
footprint D-16 (DIP, 16-Leads, Row Spacing 7.62mm, Pitch 2.54mm, Body 21.3x6.7mm)
pins: 1 SAMPLE (in) "VIN Acquisition Control Pin. Active HIGH. During conversion, SAMPLE controls the suite of the internal sample-hold amplifier and the falling edge initiates conversion. During calibration, SAMPLE should be held LOW. If HIGH (See Datasheet)", 2 CLK (in) "Master Clock Input. The AD677 requires 17 clock pulses to execute a conversion. CLK is also used to derive SCLK.", 3 SDATA (out) "Serial Output Data Controlled by SCLK.", 4 DGND (power) "Digital Ground.", 5 VCC (power) "+12 V Analog Supply Voltage.", 6 NC "No Connection. No connections should be made to these pins.", 7 NC "No Connection. No connections should be made to these pins.", 8 AGND (power) "Analog Ground.", 9 AGND SENSE (in) "Analog Ground Sense.", 10 VIN (in) "Analog Input Voltage.", 11 VREF (in) "External Voltage Reference Input.", 12 VEE (power) "-12 V Analog Supply Voltage.", 13 VDD (power) "+5 V Logic Supply Voltage.", 14 SCLK (out) "Clock Output for Data Read, derived from CLK.", 15 BUSY (out) "Status Line for Converter. Active HIGH, indicating a conversion or calibration in progress.", 16 CAL (in) "Calibration Control Pin."

## AD677BD
designator U?
Single 16-Bit Sampling Analog-to-Digital Converter with Serial Interface, 100KSPS, -40 to +85 degC, D-16, Tube; Part Number: AD677; Manufacturer: Analog Devices; Resolution (Bits): 16; Channels: 1; Throughput Rate (SPS): 100K; Interface: Ser; DatasheetVersion: Rev.A; PackageVersion: Oct-2004; PackageReference: D-16; PackageDescription: 16-Lead Side-Brazed Ceramic Dual In-Line Package [SBDIP]; RoHS: N; Packing: Tube; Mounting Technology: Through-hole; ComponentLink1Description: Manufacturer URL; ComponentLink1URL: http://www.analog.com/en/index.html; ComponentLink2Description: Datasheet; ComponentLink2URL: http://www.analog.com/static/imported-files/data_sheets/AD677.pdf; ComponentLink3Description: Package Specification; ComponentLink3URL: http://www.analog.com/static/imported-files/packages/411773807540737148809448D_16.pdf; ComponentLink4Description: Product URL; ComponentLink4URL: http://www.analog.com/en/analog-to-digital-converters/ad-converters/ad677/products/product.html
footprint D-16 (DIP, 16-Leads, Row Spacing 7.62mm, Pitch 2.54mm, Body 21.3x6.7mm)
pins: 1 SAMPLE (in) "VIN Acquisition Control Pin. Active HIGH. During conversion, SAMPLE controls the suite of the internal sample-hold amplifier and the falling edge initiates conversion. During calibration, SAMPLE should be held LOW. If HIGH (See Datasheet)", 2 CLK (in) "Master Clock Input. The AD677 requires 17 clock pulses to execute a conversion. CLK is also used to derive SCLK.", 3 SDATA (out) "Serial Output Data Controlled by SCLK.", 4 DGND (power) "Digital Ground.", 5 VCC (power) "+12 V Analog Supply Voltage.", 6 NC "No Connection. No connections should be made to these pins.", 7 NC "No Connection. No connections should be made to these pins.", 8 AGND (power) "Analog Ground.", 9 AGND SENSE (in) "Analog Ground Sense.", 10 VIN (in) "Analog Input Voltage.", 11 VREF (in) "External Voltage Reference Input.", 12 VEE (power) "-12 V Analog Supply Voltage.", 13 VDD (power) "+5 V Logic Supply Voltage.", 14 SCLK (out) "Clock Output for Data Read, derived from CLK.", 15 BUSY (out) "Status Line for Converter. Active HIGH, indicating a conversion or calibration in progress.", 16 CAL (in) "Calibration Control Pin."

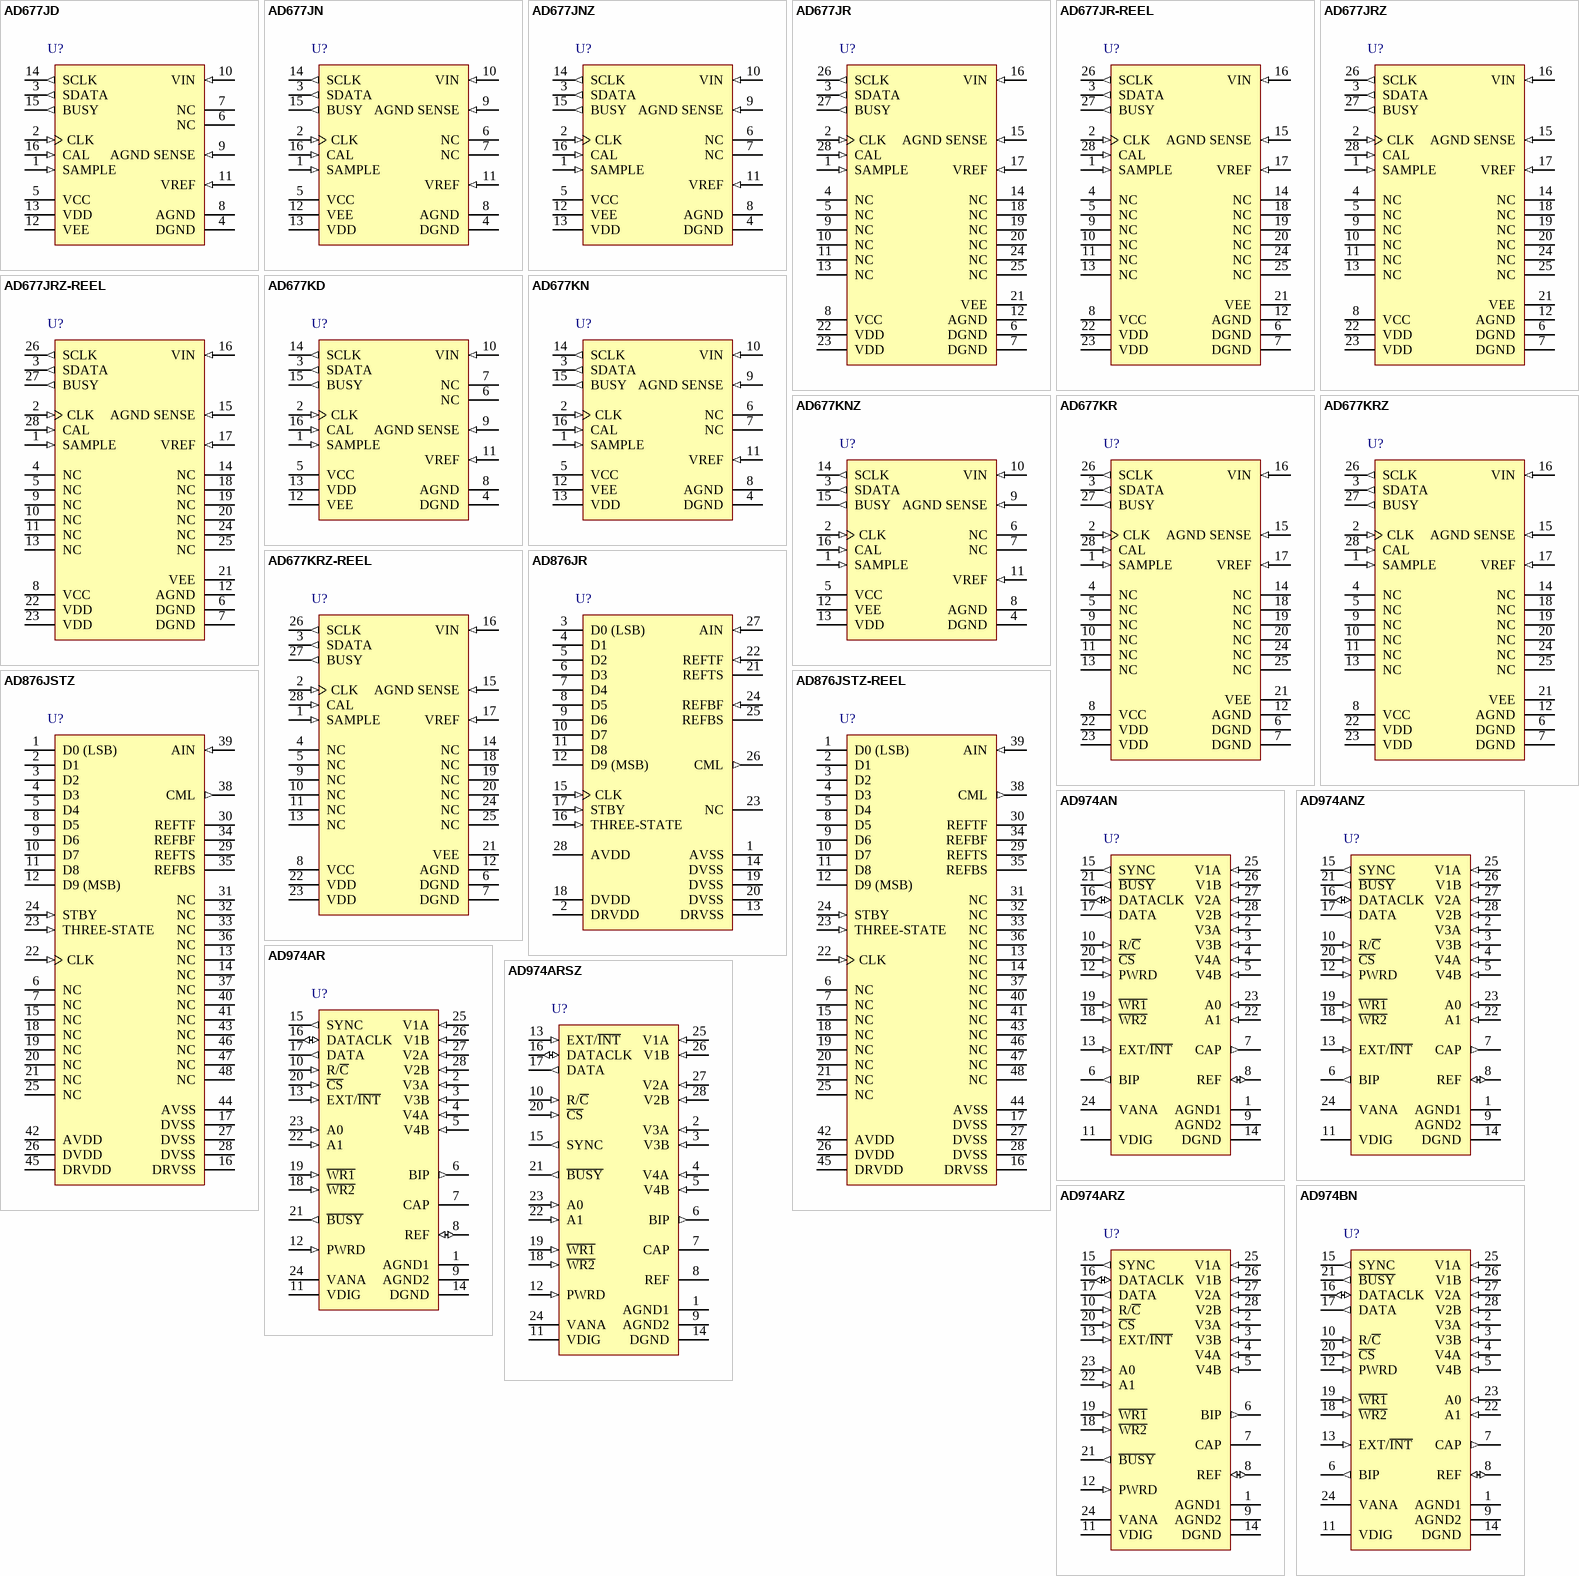
[diagram p1: symbols AD677JD to AD974BN]

## AD677JD
designator U?
Single 16-Bit Sampling Analog-to-Digital Converter with Serial Interface, 100KSPS, 0 to +70 degC, D-16, Tube; Part Number: AD677; Manufacturer: Analog Devices; Resolution (Bits): 16; Channels: 1; Throughput Rate (SPS): 100K; Interface: Ser; DatasheetVersion: Rev.A; PackageVersion: Oct-2004; PackageReference: D-16; PackageDescription: 16-Lead Side-Brazed Ceramic Dual In-Line Package [SBDIP]; RoHS: N; Packing: Tube; Mounting Technology: Through-hole; ComponentLink1Description: Manufacturer URL; ComponentLink1URL: http://www.analog.com/en/index.html; ComponentLink2Description: Datasheet; ComponentLink2URL: http://www.analog.com/static/imported-files/data_sheets/AD677.pdf; ComponentLink3Description: Package Specification; ComponentLink3URL: http://www.analog.com/static/imported-files/packages/411773807540737148809448D_16.pdf; ComponentLink4Description: Product URL; ComponentLink4URL: http://www.analog.com/en/analog-to-digital-converters/ad-converters/ad677/products/product.html
footprint D-16 (DIP, 16-Leads, Row Spacing 7.62mm, Pitch 2.54mm, Body 21.3x6.7mm)
pins: 1 SAMPLE (in) "VIN Acquisition Control Pin. Active HIGH. During conversion, SAMPLE controls the suite of the internal sample-hold amplifier and the falling edge initiates conversion. During calibration, SAMPLE should be held LOW. If HIGH (See Datasheet)", 2 CLK (in) "Master Clock Input. The AD677 requires 17 clock pulses to execute a conversion. CLK is also used to derive SCLK.", 3 SDATA (out) "Serial Output Data Controlled by SCLK.", 4 DGND (power) "Digital Ground.", 5 VCC (power) "+12 V Analog Supply Voltage.", 6 NC "No Connection. No connections should be made to these pins.", 7 NC "No Connection. No connections should be made to these pins.", 8 AGND (power) "Analog Ground.", 9 AGND SENSE (in) "Analog Ground Sense.", 10 VIN (in) "Analog Input Voltage.", 11 VREF (in) "External Voltage Reference Input.", 12 VEE (power) "-12 V Analog Supply Voltage.", 13 VDD (power) "+5 V Logic Supply Voltage.", 14 SCLK (out) "Clock Output for Data Read, derived from CLK.", 15 BUSY (out) "Status Line for Converter. Active HIGH, indicating a conversion or calibration in progress.", 16 CAL (in) "Calibration Control Pin."